# EAGLE library part HL7618RD (library eric_personal_parts)
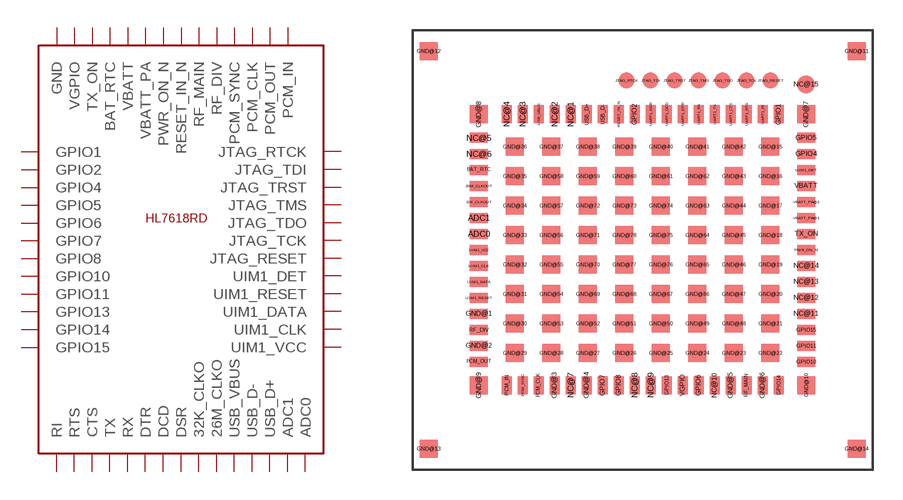
[diagram p4: symbol with the pads of HL_SERIES; footprint HL_SERIES]

Designator prefix -

## HL7618RD  [HL_SERIES]
26M_CLKOUT  26M_CLKO
32K_CLKOUT  32K_CLKO
ADC0  ADC0
ADC1  ADC1
BAT_RTC  BAT_RTC
GND@1  GND
GND@2  GND
GND@3  GND
GND@4  GND
GND@5  GND
GND@6  GND
GND@7  GND
GND@8  GND
GND@9  GND
GND@10  GND
GND@11  GND
GND@12  GND
GND@13  GND
GND@14  GND
GND@15  GND
GND@16  GND
GND@17  GND
GND@18  GND
GND@19  GND
GND@20  GND
GND@21  GND
GND@22  GND
GND@23  GND
GND@24  GND
GND@25  GND
GND@26  GND
GND@27  GND
GND@28  GND
GND@29  GND
GND@30  GND
GND@31  GND
GND@32  GND
GND@33  GND
GND@34  GND
GND@35  GND
GND@36  GND
GND@37  GND
GND@38  GND
GND@39  GND
GND@40  GND
GND@41  GND
GND@42  GND
GND@43  GND
GND@44  GND
GND@45  GND
GND@46  GND
GND@47  GND
GND@48  GND
GND@49  GND
GND@50  GND
GND@51  GND
GND@52  GND
GND@53  GND
GND@54  GND
GND@55  GND
GND@56  GND
GND@57  GND
GND@58  GND
GND@59  GND
GND@60  GND
GND@61  GND
GND@62  GND
GND@63  GND
GND@64  GND
GND@65  GND
GND@66  GND
GND@67  GND
GND@68  GND
GND@69  GND
GND@70  GND
GND@71  GND
GND@72  GND
GND@73  GND
GND@74  GND
GND@75  GND
GND@76  GND
GND@77  GND
GND@78  GND
GPIO1  GPIO1
GPIO2  GPIO2
GPIO4  GPIO4
GPIO5  GPIO5
GPIO6  GPIO6
GPIO7  GPIO7
GPIO8  GPIO8
GPIO10  GPIO10
GPIO11  GPIO11
GPIO13  GPIO13
GPIO14  GPIO14
GPIO15  GPIO15
JTAG_RESET  JTAG_RESET
JTAG_RTCK  JTAG_RTCK
JTAG_TCK  JTAG_TCK
JTAG_TDI  JTAG_TDI
JTAG_TDO  JTAG_TDO
JTAG_TMS  JTAG_TMS
JTAG_TRST  JTAG_TRST
PCM_CLK  PCM_CLK
PCM_IN  PCM_IN
PCM_OUT  PCM_OUT
PCM_SYNC  PCM_SYNC
PWR_ON_N  PWR_ON_N
RESET_IN_N  RESET_IN_N
RF_DIV  RF_DIV
RF_MAIN  RF_MAIN
TX_ON  TX_ON
UART1_CTS  CTS
UART1_DCD  DCD
UART1_DSR  DSR
UART1_DTR  DTR
UART1_RI  RI
UART1_RTS  RTS
UART1_RX  RX
UART1_TX  TX
UIM1_CLK  UIM1_CLK
UIM1_DATA  UIM1_DATA
UIM1_DET  UIM1_DET
UIM1_RESET  UIM1_RESET
UIM1_VCC  UIM1_VCC
USB_D+  USB_D+
USB_D-  USB_D-
USB_VBUS  USB_VBUS
VBATT  VBATT
VBATT_PA@1  VBATT_PA
VBATT_PA@2  VBATT_PA
VGPIO  VGPIO

## Footprint HL_SERIES (pad centres in mm)
smd 0.9 x 0.5: 26M_CLKOUT 3.32,14.2; 32K_CLKOUT 3.32,13.4; ADC0 3.32,11.8; ADC1 3.32,12.6; BAT_RTC 3.32,15; GND@1 3.32,7.8; GND@2 3.32,6.2; GPIO4 19.68,15.8; GPIO5 19.68,16.6; GPIO10 19.68,5.4; GPIO11 19.68,6.2; GPIO15 19.68,7; NC@5 3.32,16.6; NC@6 3.32,15.8; NC@11 19.68,7.8; NC@12 19.68,8.6; NC@13 19.68,9.4; NC@14 19.68,10.2; PCM_OUT 3.32,5.4; PWR_ON_N 19.68,11; RF_DIV 3.32,7; TX_ON 19.68,11.8; UIM1_CLK 3.32,10.2; UIM1_DATA 3.32,9.4; UIM1_DET 19.68,15; UIM1_RESET 3.32,8.6; UIM1_VCC 3.32,11; VBATT 19.68,14.2; VBATT_PA@1 19.68,12.6; VBATT_PA@2 19.68,13.4
smd 0.5 x 0.9: GND@3 7.1,4.22; GND@4 8.7,4.22; GND@5 15.9,4.22; GND@6 17.5,4.22; GPIO1 18.3,17.78; GPIO2 11.1,17.78; GPIO6 14.3,4.22; GPIO7 9.5,4.22; GPIO8 10.3,4.22; GPIO13 12.7,4.22; GPIO14 18.3,4.22; NC@1 7.9,17.78; NC@2 7.1,17.78; NC@3 5.5,17.78; NC@4 4.7,17.78; NC@7 7.9,4.22; NC@8 11.1,4.22; NC@9 11.9,4.22; NC@10 15.1,4.22; PCM_CLK 6.3,4.22; PCM_IN 4.7,4.22; PCM_SYNC 5.5,4.22; RESET_IN_N 10.3,17.78; RF_MAIN 16.7,4.22; UART1_CTS 15.9,17.78; UART1_DCD 12.7,17.78; UART1_DSR 11.9,17.78; UART1_DTR 13.5,17.78; UART1_RI 17.5,17.78; UART1_RTS 16.7,17.78; UART1_RX 14.3,17.78; UART1_TX 15.1,17.78; USB_D+ 8.7,17.78; USB_D- 9.5,17.78; USB_VBUS 6.3,17.78; VGPIO 13.5,4.22
smd 0.9 x 0.9: GND@7 19.68,17.78; GND@8 3.32,17.78; GND@9 3.32,4.22; GND@10 19.68,4.22; GND@11 22.2,20.95; GND@12 0.8,20.95; GND@13 0.8,1.05; GND@14 22.2,1.05; GND@15 17.888,16.163; GND@16 17.888,14.688; GND@17 17.888,13.213; GND@18 17.888,11.738; GND@19 17.888,10.263; GND@20 17.888,8.788; GND@21 17.888,7.313; GND@22 17.888,5.838; GND@23 16.063,5.838; GND@24 14.238,5.838; GND@25 12.413,5.838; GND@26 10.588,5.838; GND@27 8.763,5.838; GND@28 6.938,5.838; GND@29 5.113,5.838; GND@30 5.113,7.313; GND@31 5.113,8.788; GND@32 5.113,10.263; GND@33 5.113,11.738; GND@34 5.113,13.213; GND@35 5.113,14.688; GND@36 5.113,16.163; GND@37 6.938,16.163; GND@38 8.763,16.163; GND@39 10.588,16.163; GND@40 12.413,16.163; GND@41 14.238,16.163; GND@42 16.063,16.163; GND@43 16.063,14.688; GND@44 16.063,13.213; GND@45 16.063,11.738; GND@46 16.063,10.263; GND@47 16.063,8.788; GND@48 16.063,7.313; GND@49 14.238,7.313; GND@50 12.413,7.313; GND@51 10.588,7.313; GND@52 8.763,7.313; GND@53 6.938,7.313; GND@54 6.938,8.788; GND@55 6.938,10.263; GND@56 6.938,11.738; GND@57 6.938,13.213; GND@58 6.938,14.688; GND@59 8.763,14.688; GND@60 10.588,14.688; GND@61 12.413,14.688; GND@62 14.238,14.688; GND@63 14.238,13.213; GND@64 14.238,11.738; GND@65 14.238,10.263; GND@66 14.238,8.788; GND@67 12.413,8.788; GND@68 10.588,8.788; GND@69 8.763,8.788; GND@70 8.763,10.263; GND@71 8.763,11.738; GND@72 8.763,13.213; GND@73 10.588,13.213; GND@74 12.413,13.213; GND@75 12.413,11.738; GND@76 12.413,10.263; GND@77 10.588,10.263; GND@78 10.588,11.738; NC@15 19.68,19.275
smd 0.8 x 0.8: JTAG_RESET 17.9,19.48; JTAG_RTCK 10.7,19.48; JTAG_TCK 16.7,19.48; JTAG_TDI 11.9,19.48; JTAG_TDO 15.5,19.48; JTAG_TMS 14.3,19.48; JTAG_TRST 13.1,19.48